# EAGLE library part 68801011722 (library Wire-to-Board)
WR-WTB 2.50mm "J"Type Male Horizontal Shrouded Header, 10 Pins=>Code : WTB_2.50-J_PCB_THT_68801011722 <http://katalog.we-online.de/media/thumbs2/eican/thb_Con_WTB_2.50-J_PCB_THT_6880xx11722_pf2%20(2).jpg> Details see: http://katalog.we-online.de/en/em/688_0xx_117_22 Created 2014-06-05, Karrer Zheng 2014 (C) Würth Elektronik
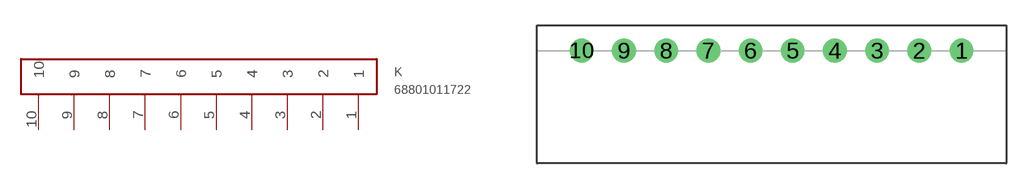
[diagram p22: symbol with the pads of 68801011722; footprint 68801011722]

Designator prefix K

## 68801011722  [68801011722]
1  1
2  2
3  3
4  4
5  5
6  6
7  7
8  8
9  9
10  10

## Footprint 68801011722 (pad centres in mm)
WR-WTB 2.50mm "J" Type Male Horizontal Shrouded Header, 10 Pins
drill 0.9: 1 1.25,0; 2 -1.25,0; 3 -3.75,0; 4 -6.25,0; 5 -8.75,0; 6 -11.25,0; 7 -13.75,0; 8 -16.25,0; 9 -18.75,0; 10 -21.25,0